# EAGLE library part TJF1051T (library CAN)
The TJF1051 is a high-speed CAN transceiver that provides an interface between a Controller Area Network (CAN) protocol controller and the physical two-wire CAN bus. The transceiver is designed for high-speed CAN industrial applications, providing differential transmit and receive capability to (a microcontroller with) a CAN protocol controller. The TJF1051 belongs to the third generation of high-speed CAN transceivers from NXP Semiconductors, offering significant improvements over first- and second-generation devices such as the TJA1050. It offers improved ElectroMagnetic Compatibility (EMC) and ElectroStatic Discharge (ESD) performance, and also features ideal passive behavior to the CAN bus when the supply voltage is off. The TJF1051T/3 can be interfaced directly to microcontrollers with supply voltages from 3 V to 5 V. The TJF1051 implements the CAN physical layer as defined in the current ISO11898 standard (ISO11898-2:2003). Pending the release of the updated version of ISO11898-2 including CAN FD, additional timing parameters defining loop delay symmetry are specified. This implementation enables reliable communication in the CAN FD fast phase at data rates up to 2 Mbit/s. These features make the TJF1051 an excellent choice for all types of HS-CAN networks, in nodes that do not require a standby mode with wake-up capability via the bus.
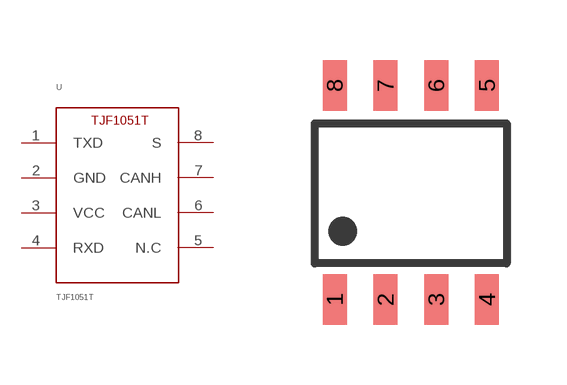
[diagram p1: symbol with the pads of SO8; footprint SO8]

Designator prefix U

## TJF1051T  [SO8]
1  TXD
2  GND  pwr
3  VCC  pwr
4  RXD
5  N.C  nc
6  CANL
7  CANH
8  S

## Footprint SO8 (pad centres in mm)
smd 0.6 x 1.27: 1 0,0; 2 1.27,0; 3 2.54,0; 4 3.81,0; 5 3.81,5.35; 6 2.54,5.35; 7 1.27,5.35; 8 0,5.35